# Altium footprint library BCX5616TA.PcbLib: 1 footprints
Each footprint in its own frame and in the unit in brackets; x right, y up, seen from the top. Pads: shape width x height; smd on the part's side, far side on the other; paste and mask are expansions set on the pad; w line width, h text height; cw(c..) or ccw(c..) is an arc to the next point about the centre after c.
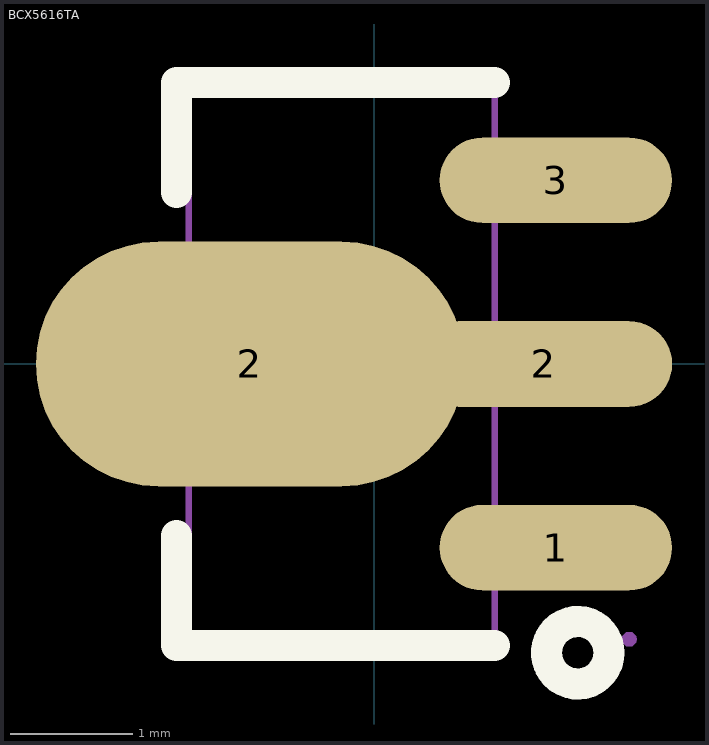
[diagram p0: the footprint, top view; thin cyan lines are the x and y axes]

## BCX5616TA [mm]
pads (4):
  oval 1.9x0.7 smd paste-100 mask+0.051: 1(1.483,-1.501) 3(1.483,1.501)
  oval 3.5x2 smd paste-100 mask+0.051: 2(-1.016,0)
  oval 2.1x0.7 smd paste-100 mask+0.051: 2(1.384,0)
Top Overlay:
  circle w0.254: c1.663,-2.36 r0.255
  lines w0.254: -1.617,-1.4 -1.617,-2.3 0.983,-2.3 ; -1.617,1.4 -1.617,2.3 0.983,2.3
Top Paste:
  drawing of 3 lines, arcs and shapes, not listed
Mechanical 6:
  circle w0.254: c1.689,-1.575 r0.127
Mechanical 15:
  region: 0.883,-1.294 0.883,-1.709 2.083,-1.709 2.083,-1.294
  region: 0.883,1.709 0.883,1.294 2.083,1.294 2.083,1.709
  region: 0.785,0.233 0.785,-0.233 2.083,-0.233 2.083,0.233
  region: -1.715,-0.8 -2.016,-0.499 -2.013,0.5 -1.709,0.8 0.21,0.8 0.784,0.23 0.784,-0.23 0.108,-0.8
  region: 2.143,-2.25 2.143,-2.226 2.108,-2.192 2.059,-2.192 2.024,-2.226 2.023,-2.25 2.024,-2.274 2.059,-2.308 2.108,-2.308 2.143,-2.274 2.143,-2.25
  lines w0.051: -1.516,-2.25 -1.516,2.25 0.984,2.25 0.984,-2.25 -1.516,-2.25